# Altium schematic symbol library REMOTOR V1.6.SCHLIB: 25 symbols
Pins are listed as number, name and electrical type; pins without a type are passive.

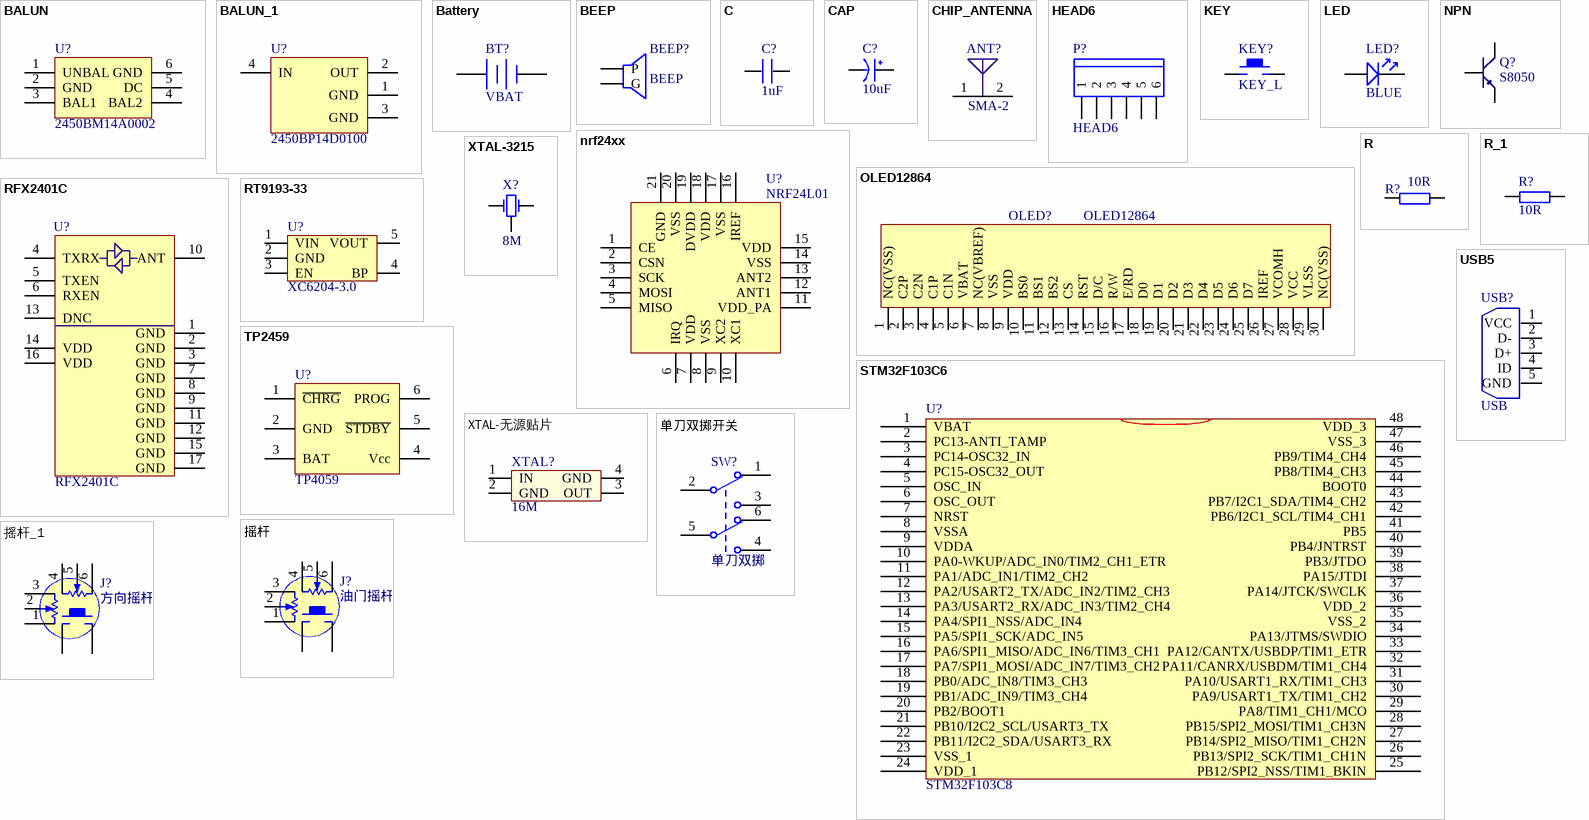
[diagram p0: symbols BALUN to 摇杆_1]

## BALUN
designator U?, comment 2450BM14A0002
footprint 0603-6 (SOIC, 6-Leads, Body 1.6x0.6mm (max), Pitch 1.27mm, IPC Medium Density)
pins: 1 UNBAL, 2 GND, 3 BAL1, 4 BAL2, 5 DC, 6 GND

## BALUN_1
designator U?, comment 2450BP14D0100
footprint BALUN_250BP (2540BP14D0100)
pins: 1 GND, 2 OUT, 3 GND, 4 IN

## Battery
designator BT?, comment VBAT
Multicell Battery; Published: 24-Mar-1999; LatestRevisionDate: 17-Jul-2002; LatestRevisionNote: Re-released for DXP Platform.; PackageReference: BAT-2; Publisher: Altium Limited
footprint BAT-2 (Multicell Battery; 2 Leads)
pins: 1 +, 2 -

## BEEP
designator BEEP?
footprint BUZZ0.25
footprint BELL-5 (PIN:5MM,SIZE:10MM)
pins: 1 P, 2 G

## C
designator C?, comment 1uF
footprint 0603P
footprint 0805
footprint CC5.08 (CAP0.1)
footprint CC4.572 (222/332)
footprint 1206
footprint 1210
footprint CC6.096
footprint CC7.62
footprint CVAR (4MM*6.6MM)
footprint C 5.08    7.5mm x4.5mm
footprint C  P5-7-10  W=4mm (P5/P7/P10      W=4mm)
footprint C  P5-7-10  W=6mm (P5/P7/P10      W=6mm)
footprint C  P5-7-10  W=9mm (P5/P7/P10      W=9mm)
footprint 0402
footprint 1218
footprint 2010
footprint 2512
footprint 0402P
pins: 1, 2

## CAP
designator C?, comment 10uF
footprint C1206
footprint CAP2.54 (RB.1/.2)
footprint CAP7.62 (25V 2200uF)
footprint CAP10.16 (50V10000uF)
footprint CAP10.9 (50V 2200uF)
footprint CAP3.0 (100V 10uF)
footprint CAP8.0 (25V/4700uF)
footprint CAP8.0_2 (50V/4700uF)
footprint C7040 (7MM*4MM)
footprint CC1010 (SMD;W:10mm;L:10mm;)
footprint CC6.56.5 (SMD;W:6.5mm;L:6.5mm;)
footprint CC88 (SMD;W:8mm;L:8mm;)
footprint CAP2.54M (6mm*8mm)
footprint CAP12.5 (12.5mm*20mm,pin:5.08mm)
footprint C3528
footprint CC5.35.3
footprint CAP7.62  侧式 (50V 4700uF)
footprint CAP7.62  侧式 - A (50V 4700uF)
footprint C0805 钽电容
footprint CAP5.08 R=13 侧式 (RB 5.08  13x20)
footprint CAP5.08 R=13 侧式-A (RB 5.08  13x20)
footprint CAP5.08 R=10 (RB 5.08/10)
footprint CAP5.08 R=13 (RB 5.08/13)
pins: 1 VCC, 2 GND

## CHIP_ANTENNA
designator ANT?, comment SMA-2
footprint ANT9520 (Chip Capacitor, 2-Leads, Body 9.5x2.0mm, IPC Medium Density)
footprint SMA-2
pins: 1 FP, 2 NC

## HEAD6
designator P?
footprint HEAD6L-0.8 (30mm*8mm,pin:5.08mm)
footprint KF2EDGR(5.08) - 06 (拔插接线端子   卧式)
footprint KF2EDGV(5.08) - 06 (拔插接线端子   立式)
footprint SH1.0-6P
footprint HEADER6-2.0MM
pins: 1, 2, 3, 4, 5, 6

## KEY
designator KEY?, comment KEY_L
footprint KEY_M (KEY_MID)
footprint KEY_2 (KEY?)
footprint KEY_SOP_BG (KEY?)
footprint KEY 侧式 (按键 贴片 侧式)
footprint KEY_2S
pins: 1, 2

## LED
designator LED?, comment BLUE
footprint SMDLED
footprint LED-DIP (PIN:2.54MM;H:5MM;)
footprint LED 2.54 DIP
footprint 0603
pins: 1, 2

## NPN
designator Q?, comment S8050
8050/BCW846/BCW847
footprint SOT-23R (SOT-23; 3 Leads; Body 3.0 x 2.5 mm, inc. leads (LxW max))
footprint NPN
pins: 1 E, 2 B, 3 C

## nrf24xx
designator U?, comment NRF24L01
footprint QFN20
pins: 1 CE, 2 CSN, 3 SCK, 4 MOSI, 5 MISO, 6 IRQ, 7 VDD, 8 VSS, 9 XC2, 10 XC1, 11 VDD_PA, 12 ANT1, 13 ANT2, 14 VSS, 15 VDD, 16 IREF, 17 VSS, 18 VDD, 19 DVDD, 20 VSS, 21 GND

## OLED12864
designator OLED?
footprint OLED_0.96 (128*64)
footprint OLED_1.3
pins: 1 NC(VSS), 2 C2P, 3 C2N, 4 C1P, 5 C1N, 6 VBAT, 7 NC(VBREF), 8 VSS, 9 VDD, 10 BS0, 11 BS1, 12 BS2, 13 CS, 14 RST, 15 D/C, 16 R/W, 17 E/RD, 18 D0, 19 D1, 20 D2, 21 D3, 22 D4, 23 D5, 24 D6, 25 D7, 26 IREF, 27 VCOMH, 28 VCC, 29 VLSS, 30 NC(VSS)

## R
designator R?, comment 10R
footprint 0805
footprint 0603P
footprint RL (10o/0.7uH)
footprint R16.0 (RX/1W)
footprint 1206
footprint 1210
footprint R20.0 (RX/2W)
footprint R10.16 (STD)
footprint RLN9 (13.5mm*5.1mm)
footprint 1218
footprint 2010
footprint 2512
footprint 0402
footprint 0402P
pins: 1, 2

## R_1
designator R?, comment 10R
footprint 0805
footprint 0603P
footprint RL (10o/0.7uH)
footprint R16.0 (RX/1W)
footprint 1206
footprint 1210
footprint R20.0 (RX/2W)
footprint R10.16 (STD)
footprint RLN9 (13.5mm*5.1mm)
footprint 1218
footprint 2010
footprint 2512
footprint 0402
pins: 1, 2

## RFX2401C
designator U?
footprint QFN16 (QFN, 16-Leads, Body 3.1x3.1mm (max), Pitch 0.50mm, IPC Medium Density)
footprint QFN16M
pins: 1 GND, 2 GND, 3 GND, 4 TXRX, 5 TXEN, 6 RXEN, 7 GND, 8 GND, 9 GND, 10 ANT, 11 GND, 12 GND, 13 DNC, 14 VDD, 15 GND, 16 VDD, 17 GND

## RT9193-33
designator U?, comment XC6204-3.0
3.3V超低压差LDO
footprint SOT-23-5
pins: 1 VIN, 2 GND, 3 EN, 4 BP, 5 VOUT

## STM32F103C6
designator U?, comment STM32F103C8
footprint mTQFP48 (5.8mm)
pins: 1 VBAT, 2 PC13-ANTI_TAMP, 3 PC14-OSC32_IN, 4 PC15-OSC32_OUT, 5 OSC_IN, 6 OSC_OUT, 7 NRST, 8 VSSA, 9 VDDA, 10 PA0-WKUP/ADC_IN0/TIM2_CH1_ETR, 11 PA1/ADC_IN1/TIM2_CH2, 12 PA2/USART2_TX/ADC_IN2/TIM2_CH3, 13 PA3/USART2_RX/ADC_IN3/TIM2_CH4, 14 PA4/SPI1_NSS/ADC_IN4, 15 PA5/SPI1_SCK/ADC_IN5, 16 PA6/SPI1_MISO/ADC_IN6/TIM3_CH1, 17 PA7/SPI1_MOSI/ADC_IN7/TIM3_CH2, 18 PB0/ADC_IN8/TIM3_CH3, 19 PB1/ADC_IN9/TIM3_CH4, 20 PB2/BOOT1, 21 PB10/I2C2_SCL/USART3_TX, 22 PB11/I2C2_SDA/USART3_RX, 23 VSS_1, 24 VDD_1, 25 PB12/SPI2_NSS/TIM1_BKIN, 26 PB13/SPI2_SCK/TIM1_CH1N, 27 PB14/SPI2_MISO/TIM1_CH2N, 28 PB15/SPI2_MOSI/TIM1_CH3N, 29 PA8/TIM1_CH1/MCO, 30 PA9/USART1_TX/TIM1_CH2, 31 PA10/USART1_RX/TIM1_CH3, 32 PA11/CANRX/USBDM/TIM1_CH4, 33 PA12/CANTX/USBDP/TIM1_ETR, 34 PA13/JTMS/SWDIO, 35 VSS_2, 36 VDD_2, 37 PA14/JTCK/SWCLK, 38 PA15/JTDI, 39 PB3/JTDO, 40 PB4/JNTRST, 41 PB5, 42 PB6/I2C1_SCL/TIM4_CH1, 43 PB7/I2C1_SDA/TIM4_CH2, 44 BOOT0, 45 PB8/TIM4_CH3, 46 PB9/TIM4_CH4, 47 VSS_3, 48 VDD_3
2 alternate drawings of the same symbol

## TP2459
designator U?, comment TP4059
600mA充电芯片
footprint SOT-23-6
pins: 1 ~{CHRG}, 2 GND, 3 BAT, 4 Vcc, 5 ~{STDBY}, 6 PROG

## USB5
designator USB?, comment USB
footprint USB/SM0.8-6H5
footprint Micro usb座 (Micro usb座 5pin)
footprint Micro usb座 -全贴片
footprint MICROUSB-SOP
footprint MICRO_USB5P_SOP
pins: 1 VCC, 2 D-, 3 D+, 4 ID, 5 GND

## XTAL-3215
designator X?, comment 8M
footprint XTAL3215
pins: 1 OSC1, 2 GND, 3 OSC2

## XTAL-无源贴片
designator XTAL?, comment 16M
无源贴片晶振
footprint XTAL3225   无源 (32*25mm 无源晶振贴片)
pins: 1 IN, 2 GND, 3 OUT, 4 GND

## 单刀双掷开关
designator SW?, comment 单刀双掷
单刀双掷开关
footprint 拨动开关DIP (Connector; Header; 3x2 Position)
pins: 1, 2, 3, 4, 5, 6

## 摇杆
designator J?, comment 油门摇杆
摇杆
footprint Model Name (Footprint not found)
footprint 摇杆2 (360度回中，带按键)
footprint 摇杆2 (360度回中，带按键)
pins: 1, 2, 3, 4, 5, 6, J1, J2

## 摇杆_1
designator J?, comment 方向摇杆
摇杆
footprint Model Name (Footprint not found)
footprint 摇杆2 (360度回中，带按键)
pins: 1, 2, 3, 4, 5, 6, J1, J2